# Altium footprint library smdchip.PcbLib: 57 footprints (part 4 of 4)
Each footprint in its own frame and in the unit in brackets; x right, y up, seen from the top. Pads: shape width x height; smd on the part's side, far side on the other; paste and mask are expansions set on the pad; w line width, h text height; cw(c..) or ccw(c..) is an arc to the next point about the centre after c.
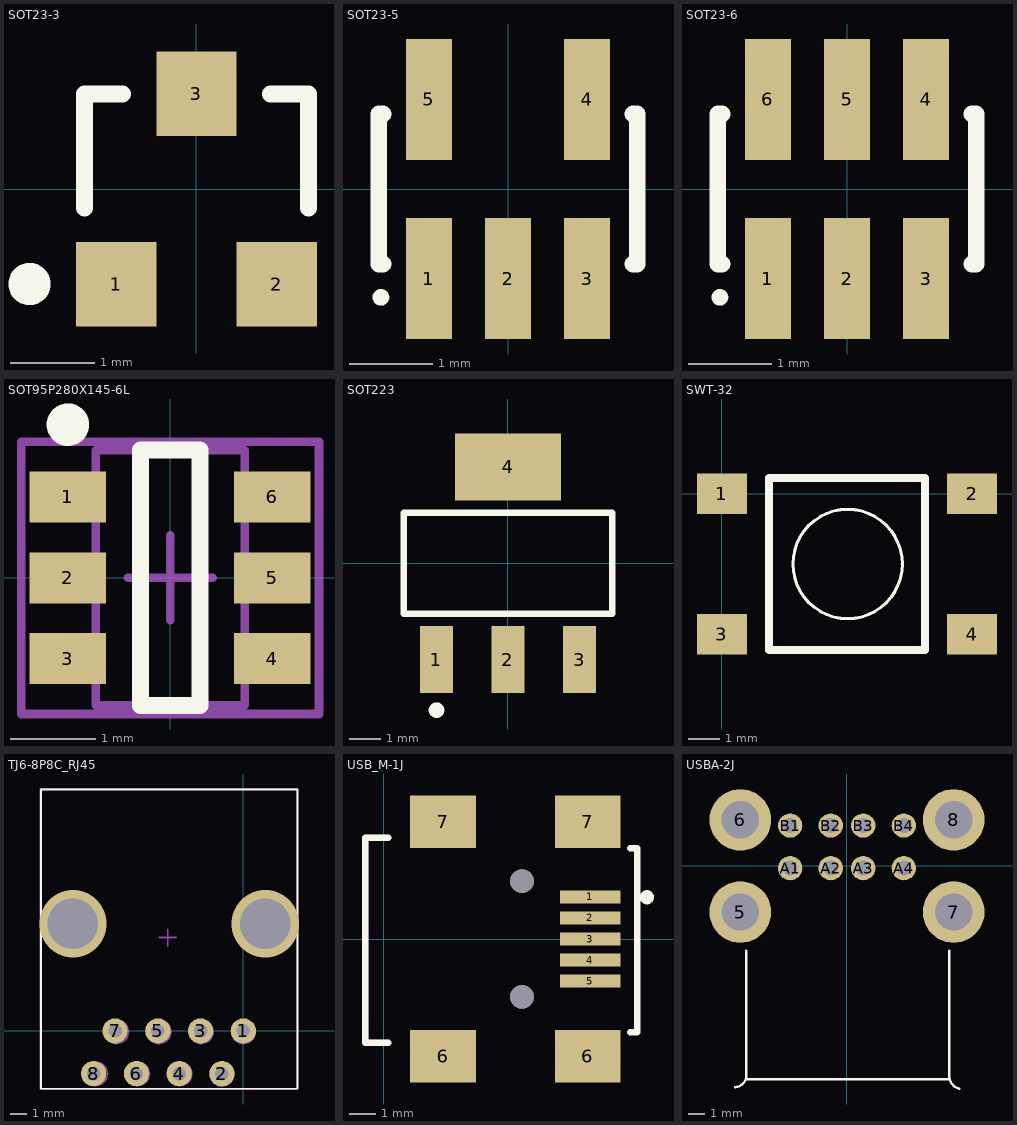
[diagram p3: the footprints below, top view; thin cyan lines are the x and y axes]

## SOT23-3 [mm] "SOT-23; 3 Leads; Body 3.0 x 2.5 mm, inc. leads (LxW max)"
height 1.2
pads (3):
  rect 0.95x1 smd: 1(-0.95,-1.125) 2(0.95,-1.125) 3(0,1.125)
Top Overlay:
  circle w0.25: c-1.975,-1.125 r0.125
  lines w0.2: -1.328,1.125 -0.875,1.125 ; -1.325,-0.225 -1.325,1.125 ; 0.875,1.125 1.325,1.125 1.325,-0.225

## SOT23-5 [mm] "SOT-23/SC-74A; 5 Leads; Body 3 x 3 mm, inc. leads (LxW max)"
height 1.45
pads (5):
  rect 0.55x1.45 smd: 1(-0.95,-1.075) 2(0,-1.075) 3(0.95,-1.075) 4(0.95,1.075) 5(-0.95,1.075)
Top Overlay:
  circle w0.1: c-1.525,-1.3 r0.05
  lines w0.2: -1.5,-0.9 -1.55,-0.9 -1.55,0.9 -1.5,0.9 ; 1.5,-0.9 1.55,-0.9 1.55,0.9 1.5,0.9

## SOT23-6 [mm] "SOT-457/SC-74; 6 Leads; Body 3 x 3 mm, inc. leads (LxW max)"
height 1.45
pads (6):
  rect 0.55x1.45 smd: 1(-0.95,-1.075) 2(0,-1.075) 3(0.95,-1.075) 4(0.95,1.075) 5(0,1.075) 6(-0.95,1.075)
Top Overlay:
  circle w0.1: c-1.525,-1.3 r0.05
  lines w0.2: -1.5,-0.9 -1.55,-0.9 -1.55,0.9 -1.5,0.9 ; 1.5,-0.9 1.55,-0.9 1.55,0.9 1.5,0.9

## SOT95P280X145-6L [mm] "SOT23, 6-Leads, Body 3,0x3,0mm (max), Pitch 0,95mm, IPC High Density"
height 1.45
pads (6):
  rect 0.9x0.6 smd: 1(-1.2,0.95) 2(-1.2,0) 3(-1.2,-0.95) 4(1.2,-0.95) 5(1.2,0) 6(1.2,0.95)
Top Overlay:
  circle w0.25: c-1.2,1.8 r0.125
  lines w0.2: -0.35,-1.5 -0.35,1.5 0.35,1.5 0.35,-1.5 -0.35,-1.5
Mechanical 2:
  lines w0.05: -1.775,1.575 -1.775,-1.6 1.725,-1.6 1.725,1.6 -1.775,1.6
  text ".designator" at -1.525,-0.175 h0.5
Mechanical 13:
  lines w0.1: -0.875,-1.5 0.875,-1.5 0.875,1.5 -0.875,1.5 -0.875,-1.5
Mechanical 15:
  lines w0.1: -0.5,0 0.5,0 ; 0,-0.5 0,0.5 ; -1.75,-1.6 1.75,-1.6 1.75,1.6 -1.75,1.6 -1.75,-1.6
3D body: height 1.45, standoff 0.01, extent -0.875,-1.5 0.875,1.5

## SOT223 [mm] "SOT-223/SC-73; 4 Leads; Body 6.7 x 7.3 mm, inc. leads (LxW max)"
height 1.7
pads (4):
  rect 1.05x2.15 smd: 1(-2.3,-3.1) 2(0,-3.1) 3(2.3,-3.1)
  rect 3.4x2.15 smd: 4(0,3.1)
Top Overlay:
  circle w0.25: c-2.3,-4.725 r0.125
  lines w0.2: -3.35,-1.625 3.35,-1.625 3.35,1.625 -3.35,1.625 -3.35,-1.625

## SWT-32 [mm]
pads (4):
  rect 1.6x1.3 smd: 1(0,0) 2(8,0) 3(0,-4.5) 4(8,-4.5)
Top Overlay:
  circle w0.1: c4.02,-2.25 r1.75
  lines w0.254: 1.5,-5 6.5,-5 6.5,0.5 1.5,0.5 1.5,-5

## TJ6-8P8C_RJ45 [mm]
height 12.6
pads (8):
  round 1.5 hole 0.8: 1(-0.005,0) 2(-1.275,-2.54) 3(-2.545,0) 4(-3.815,-2.54) 5(-5.085,0) 6(-6.355,-2.54) 7(-7.625,0) 8(-8.895,-2.54)
via 1.305,6.375 diameter 4 hole 3
via -10.125,6.375 diameter 4 hole 3
Top Overlay:
  lines w0.1: -12.03,-3.44 3.21,-3.44 3.21,14.34 -12.03,14.34 -12.03,-3.44
Mechanical 13:
  circle w0.1: c-1.275,-2.575 r0.7
  circle w0.1: c-3.775,-2.55 r0.7
  circle w0.1: c-6.275,-2.55 r0.7
  circle w0.1: c-8.775,-2.55 r0.7
  circle w0.1: c-7.525,-0.05 r0.7
  circle w0.1: c-5,-0.05 r0.7
  circle w0.1: c-2.5,-0.05 r0.7
  circle w0.1: c0,-0.05 r0.7
  circle w0.1: c-10.107,6.425 r1.75
  circle w0.1: c1.293,6.375 r1.75
Mechanical 15:
  lines w0.1: -4.992,5.55 -3.992,5.55 ; -4.492,5.05 -4.492,6.05 ; -12.05,-3.45 3.2,-3.45 3.2,14.375 -12.05,14.375 -12.05,-3.45
3D body: height 4, standoff -3.5, extent -6.975,-3.25 -5.575,-1.85
3D body: height 4, standoff -3.5, extent -9.475,-3.25 -8.075,-1.85
3D body: height 4, standoff -3.5, extent -11.85,4.675 -8.325,8.175
3D body: height 4, standoff -3.5, extent -8.25,-0.75 -6.85,0.65
3D body: height 4, standoff -3.5, extent -5.7,-0.725 -4.3,0.675
3D body: height 4, standoff -3.5, extent -4.5,-3.25 -3.1,-1.85
3D body: height 4, standoff -3.5, extent -1.975,-3.25 -0.575,-1.85
3D body: height 4, standoff -3.5, extent -3.2,-0.75 -1.8,0.65
3D body: height 4, standoff -3.5, extent -0.7,-0.75 0.7,0.65
3D body: height 4, standoff -3.5, extent -0.45,4.625 3.075,8.125
3D body: height 12.6, standoff 0, extent -12.013,-3.4 3.25,14.425

## USB_M-1J [mm]
height 3.95
pads (11):
  rect 2.3x0.5 smd: 1(7.85,1.6) 2(7.85,0.8) 3(7.85,0) 4(7.85,-0.8) 5(7.85,-1.6)
  rect 2.5x2 smd: 6(2.25,-4.45) 6(7.75,-4.45) 7(2.25,4.45) 7(7.75,4.45)
  round 0.9 hole 0.9 unplated: SYSPAD10(5.25,2.2) SYSPAD11(5.25,-2.2)
Top Overlay:
  lines w0.25: 0.175,-3.95 -0.7,-3.95 -0.7,3.85 0.175,3.85 ; 9.375,-3.55 9.625,-3.55 9.625,3.45 9.375,3.45
  lines w0.254: 10.099,1.687 ccw(c9.999,1.587) 10.125,1.65
Mechanical 15:
  lines w0.25: -0.7,-3.95 -0.7,3.85 0.175,3.85 ; -0.675,-3.95 0.175,-3.95
3D body: height 3.95, standoff 0, extent -0.65,-3.925 9.675,3.9

## USBA-2J [mm] "Разъем USB (м) на плату, двойной, тип А , тип 1"
height 13.62
pads (12):
  round 3.8 hole 2.3 mask+0.05: 5(-6.57,-2.84) 6(-6.57,2.84) 7(6.57,-2.84) 8(6.57,2.84)
  round 1.5 hole 0.92 mask+0.05: A1(-3.5,-0.13) A2(-1,-0.13) A3(1,-0.13) A4(3.5,-0.13) B1(-3.5,2.49) B2(-1,2.49) B3(1,2.49) B4(3.5,2.49)
Top Overlay:
  lines w0.15: -6.882,-13.634 ccw(c-6.982,-12.834) -6.2,-13.03 ; -6.2,-5.23 -6.2,-13.13 6.3,-13.13 6.3,-5.23 ; 6.3,-13.03 ccw(c7.1,-12.93) 6.904,-13.712
3D body: height 13.62, standoff 0, extent -6.2,-13.03 6.3,5.07